# Altium footprint library PCB库2.PcbLib: 108 footprints (part 5 of 7)
Each footprint in its own frame and in the unit in brackets; x right, y up, seen from the top. Pads: shape width x height; smd on the part's side, far side on the other; paste and mask are expansions set on the pad; w line width, h text height; cw(c..) or ccw(c..) is an arc to the next point about the centre after c.
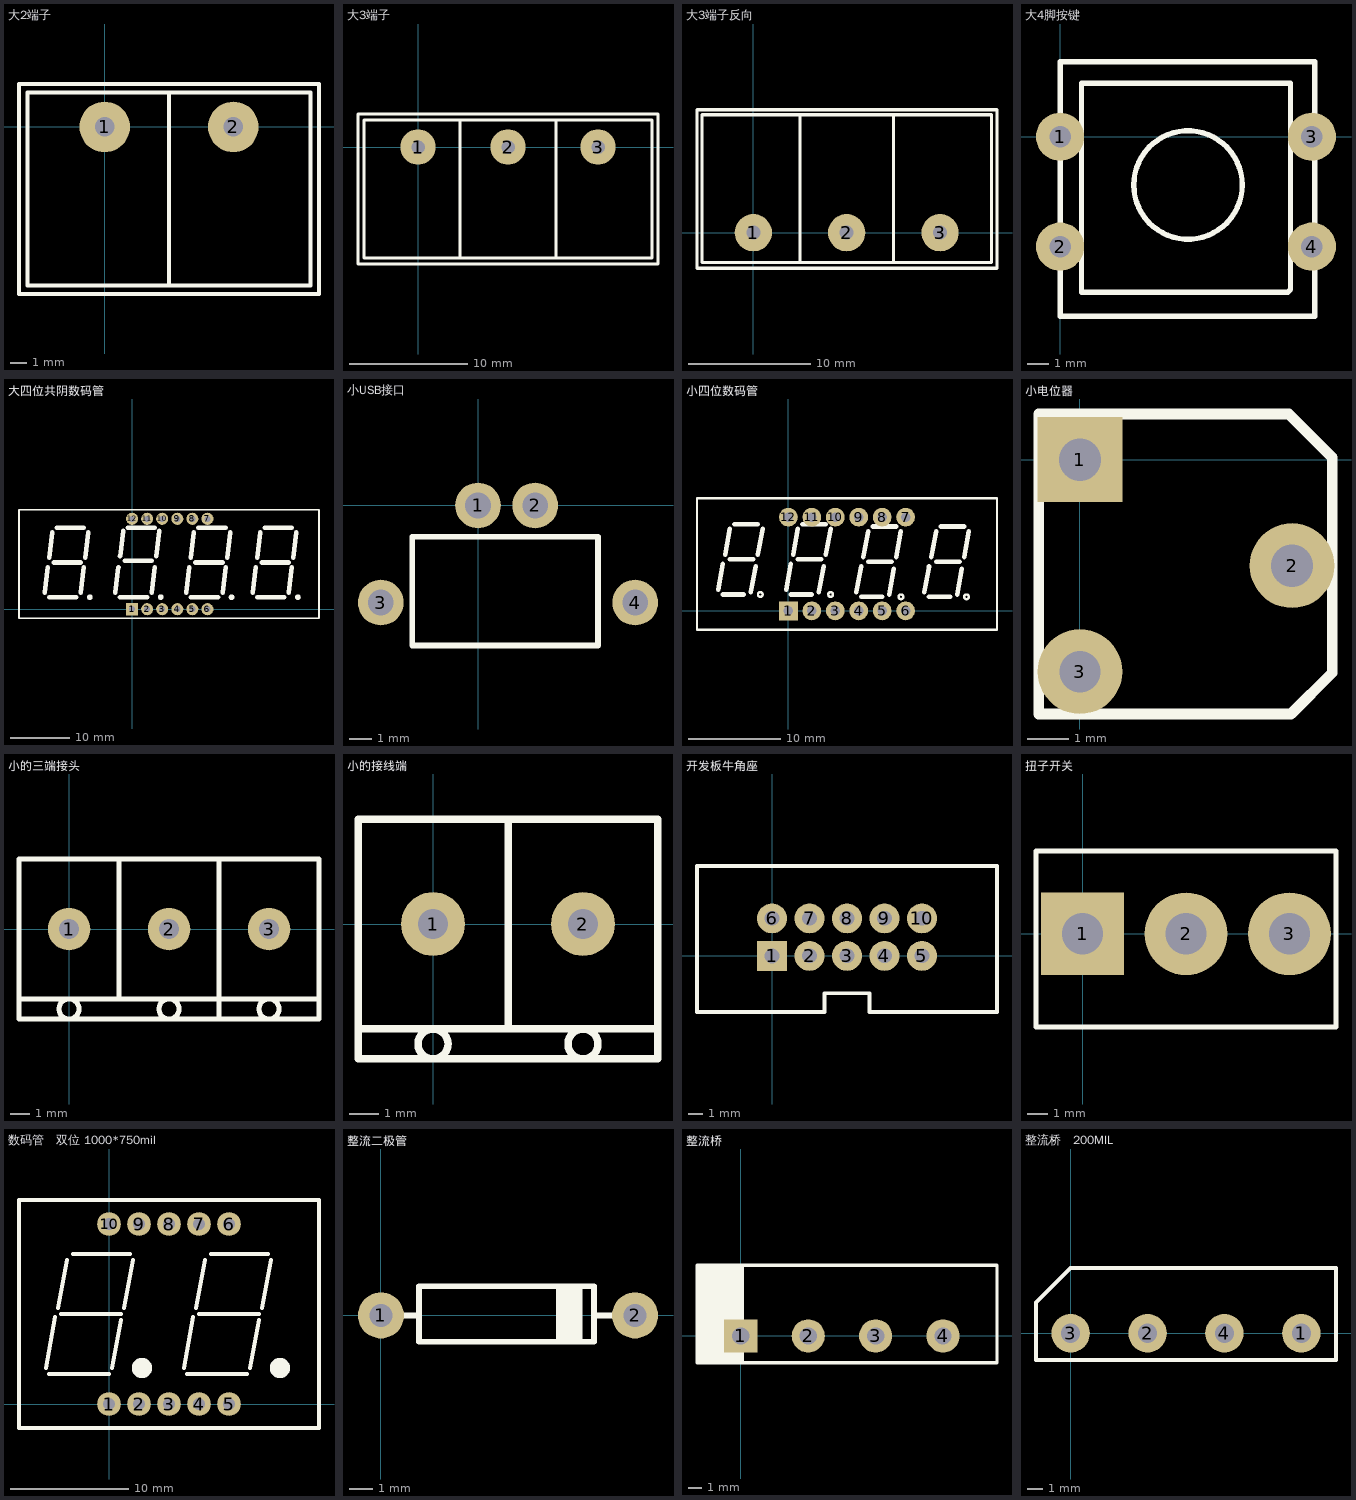
[diagram p4: the footprints below, top view; thin cyan lines are the x and y axes]

## 大2端子 [mm]
pads (2):
  round 3 hole 1.143: 1(0,0) 2(7.62,0)
Top Overlay:
  lines w0.254: 3.81,-9.398 3.81,2.032 ; -5.08,-9.906 -5.08,2.54 12.7,2.54 12.7,-9.906 -5.08,-9.906 ; -4.572,-9.398 12.192,-9.398 12.192,2.032 -4.572,2.032 -4.572,-9.398

## 大3端子 [mm]
pads (3):
  round 3 hole 1.143: 1(0,0) 2(7.62,0) 3(15.24,0)
Top Overlay:
  lines w0.254: 3.556,-9.398 3.556,2.286 ; 11.684,-9.398 11.684,2.286 ; -5.08,-9.906 -5.08,2.794 20.32,2.794 20.32,-9.906 -5.08,-9.906 ; -4.572,-9.398 19.812,-9.398 19.812,2.286 -4.572,2.286 -4.572,-9.398

## 大3端子反向 [mil]
pads (3):
  round 120 hole 45: 1(0,0) 2(300,0) 3(600,0)
Top Overlay:
  lines w10: 150,-96 150,377 ; 450,-96 450,377 ; -181,-114 783,-114 783,395 -181,395 -181,-114 ; -165,-96 -165,379 765,379 765,-96 -165,-96

## 大4脚按键 [mil]
pads (4):
  round 90 hole 40: 1(0,0) 2(0,-205) 3(470,0) 4(470,-205)
Top Overlay:
  circle w10: c238.76,-90 r101.24
  lines w10: 0,-335 0,140 475,140 475,-335 0,-335 ; 40,-290 425,-290 430,-285 430,100 40,100 40,-290

## 大四位共阴数码管 [mil]
pads (12):
  rect 80x80 hole 40: 1(0,0)
  round 80 hole 40: 2(100,0) 3(200,0) 4(300,0) 5(400,0) 6(500,0) 7(500,600) 8(400,600) 9(300,600) 10(200,600) 11(100,600) 12(0,600)
Top Overlay:
  circle w10: c1100,80 r14.14
  circle w10: c660,80 r14.14
  circle w10: c190,80 r14.14
  circle w10: c-280,80 r14.14
  rectangle: 1090,70 1110,90
  rectangle: 650,70 670,90
  rectangle: 180,70 200,90
  rectangle: -290,70 -270,90
  lines w10: -750,-60 -750,660 1240,660 1240,-60 -750,-60
  lines w30: -580,110 -560,280 ; -550,80 -370,80 ; -550,340 -530,510 ; -520,310 -340,310 ; -500,540 -320,540 ; -340,110 -320,280 ; -310,340 -290,510 ; -110,110 -90,280 ; -80,80 100,80 ; -80,350 -60,520 ; -50,320 130,320 ; -30,540 150,540 ; 130,110 150,280 ; 160,350 180,520 ; 360,110 380,280 ; 390,80 570,80 ; 390,340 410,510 ; 420,310 600,310 ; 440,540 620,540 ; 600,110 620,280 ; 630,340 650,510 ; 800,110 820,280 ; 830,80 1010,80 ; 830,340 850,510 ; 860,310 1040,310 ; 880,540 1060,540 ; 1040,110 1060,280 ; 1070,340 1090,510

## 小USB接口 [mil]
pads (4):
  round 80 hole 45: 1(0,0) 2(100,0) 3(-170,-170) 4(275,-170)
Top Overlay:
  lines w10: -115,-245 210,-245 210,-55 -115,-55 -115,-245

## 小四位数码管 [mil]
pads (12):
  rect 80x80 hole 40: 1(0,0)
  round 80 hole 40: 2(100,0) 3(200,0) 4(300,0) 5(400,0) 6(500,0) 7(500,400) 8(400,400) 9(300,400) 10(200,400) 11(100,400) 12(0,400)
Top Overlay:
  circle w10: c760,60 r10
  circle w10: c480,60 r10
  circle w10: c180,70 r10
  circle w10: c-120,70 r10
  lines w10: -390,-80 -390,480 890,480 890,-80 -390,-80
  lines w19.68: -300,90 -280,200 ; -280,70 -190,70 ; -270,240 -250,350 ; -250,220 -150,220 ; -230,370 -130,370 ; -160,80 -140,190 ; -130,240 -110,350 ; -10,90 10,200 ; 10,70 100,70 ; 20,240 40,350 ; 40,220 140,220 ; 60,370 160,370 ; 130,80 150,190 ; 160,240 180,350 ; 290,80 310,190 ; 310,60 400,60 ; 320,230 340,340 ; 340,210 440,210 ; 360,360 460,360 ; 430,70 450,180 ; 460,230 480,340 ; 580,80 600,190 ; 600,60 690,60 ; 610,230 630,340 ; 630,210 730,210 ; 650,360 750,360 ; 720,70 740,180 ; 750,230 770,340

## 小电位器 [mil]
pads (3):
  rect 80x80 hole 40: 1(0,0)
  round 80 hole 40: 2(200,-100)
  round 80 hole 39: 3(0,-200)
Top Overlay:
  lines w10: -39,-240 100,-240 199,-240 238,-201 238,2 197,43 -39,43 -39,-240

## 小的三端接头 [mil]
pads (3):
  round 85 hole 40: 1(0,0) 2(200,0) 3(400,0)
Top Overlay:
  circle w10: c400,-160 r20
  circle w10: c0,-160 r20
  circle w10: c200,-160 r20
  lines w10: -100,-140 300,-140 500,-140 ; 100,-140 100,140 ; 290,-180 500,-180 500,140 300,140 ; 300,140 -100,140 -100,100 -100,-180 300,-180 300,140

## 小的接线端 [mil]
pads (2):
  round 85 hole 40: 1(0,0) 2(200,0)
Top Overlay:
  circle w10: c0,-160 r20
  circle w10: c200,-160 r20
  lines w10: -100,-140 300,-140 ; 100,-140 100,140 ; -100,-180 300,-180 300,140 -100,140 -100,100 -100,-180

## 开发板牛角座 [mil]
pads (10):
  rect 80x80 hole 39.37: 1(0,0)
  round 80 hole 39: 2(100,0) 3(200,0) 4(300,0) 5(400,0) 6(0,100) 7(100,100) 8(200,100) 9(300,100) 10(400,100)
Top Overlay:
  lines w10: -200,-150 140,-150 140,-100 260,-100 260,-150 600,-150 600,240 -200,240 -200,-150

## 扭子开关 [mil]
pads (3):
  rect 160x160 hole 80: 1(0,0)
  round 160 hole 80: 2(200,0) 3(400,0)
Top Overlay:
  lines w10: -90,-180 -90,160 490,160 490,-180 -90,-180

## 数码管   双位 1000*750mil [mm]
pads (10):
  round 2 hole 1: 1(0,0) 2(2.54,0) 3(5.08,0) 4(7.62,0) 5(10.16,0) 6(10.16,15.24) 7(7.62,15.24) 8(5.08,15.24) 9(2.54,15.24) 10(0,15.24)
Top Overlay:
  circle w1: c14.478,3.048 r0.359
  circle w1: c2.794,3.048 r0.359
  lines w0.35: -5.334,3.048 -4.572,7.366 ; -5.08,2.54 0,2.54 ; -4.318,8.128 -3.556,12.192 ; -4.064,7.62 1.016,7.62 ; 0.254,3.048 1.016,7.112 ; 1.27,8.128 2.032,12.192 ; 6.35,3.048 7.112,7.366 ; 6.604,2.54 11.684,2.54 ; 7.366,8.128 8.128,12.192 ; 7.62,7.62 12.7,7.62 ; 11.938,3.048 12.7,7.112 ; 12.954,8.128 13.716,12.192 ; -7.62,-2.032 -7.62,17.272 17.78,17.272 17.78,-2.032 -7.62,-2.032
  lines w0.354: -3.048,12.7 1.778,12.7 ; 8.636,12.7 13.462,12.7

## 整流二极管 [mm]
pads (2):
  round 2 hole 1: 1(0,0) 2(11.049,0)
Top Overlay:
  rectangle: 7.62,-1.143 8.763,1.27
  lines w0.254: 0,0 1.651,0 ; 7.874,-1.143 8.128,-1.143 ; 8.128,1.27 8.382,1.27 ; 8.382,-1.143 8.636,-1.143 ; 9.271,0 11.049,0 ; 1.651,-1.143 9.271,-1.143 9.271,1.27 1.651,1.27 1.651,-1.143

## 整流桥 [mm]
pads (4):
  rect 2.5x2.5 hole 1.3: 1(0,0)
  round 2.5 hole 1.3: 2(5.08,0) 3(10.16,0) 4(15.24,0)
Top Overlay:
  rectangle: -3.302,-2.032 0.254,5.334
  lines w0.254: -3.302,-2.032 -3.302,5.334 19.304,5.334 19.304,-2.032 -3.302,-2.032

## 整流桥   200MIL [mil]
pads (4):
  round 100 hole 50: 1(600,0) 2(200,0) 3(0,0) 4(400,0)
Top Overlay:
  lines w10: 0,-70 -90,-70 ; -90,-70 690,-70 690,170 0,170 -90,80 -90,0 -90,-70